# EAGLE library part NANOPI-DUO (library FriendlyArm)
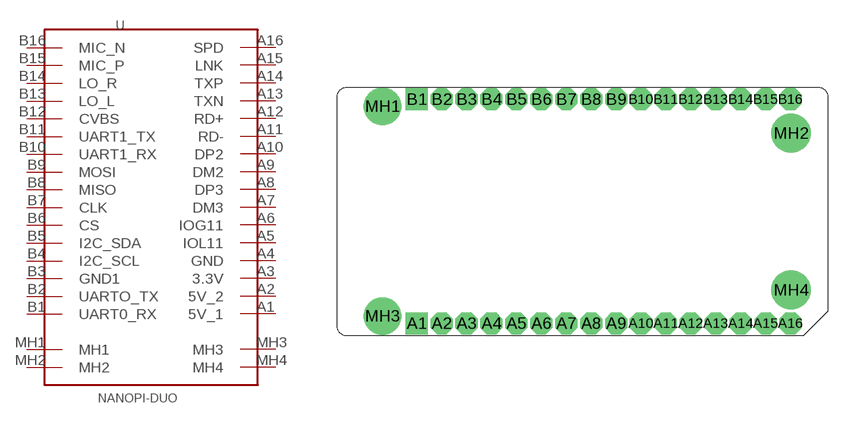
[diagram p3: symbol with the pads of NANOPI-DUO; footprint NANOPI-DUO]

Designator prefix -

## NANOPI-DUO  [NANOPI-DUO]
A1  5V_1
A2  5V_2
A3  3.3V
A4  GND
A5  IOL11
A6  IOG11
A7  DM3
A8  DP3
A9  DM2
A10  DP2
A11  RD-
A12  RD+
A13  TXN
A14  TXP
A15  LNK
A16  SPD
B1  UART0_RX
B2  UARTO_TX
B3  GND1
B4  I2C_SCL
B5  I2C_SDA
B6  CS
B7  CLK
B8  MISO
B9  MOSI
B10  UART1_RX
B11  UART1_TX
B12  CVBS
B13  LO_L
B14  LO_R
B15  MIC_P
B16  MIC_N
MH1  MH1
MH2  MH2
MH3  MH3
MH4  MH4

## Footprint NANOPI-DUO (pad centres in mm)
drill 1.5 square: A1 8.1,1.3; B1 8.1,24.16
drill 1.5 octagon: A2 10.64,1.3; A3 13.18,1.3; A4 15.72,1.3; A5 18.26,1.3; A6 20.8,1.3; A7 23.34,1.3; A8 25.88,1.3; A9 28.42,1.3; A10 30.96,1.3; A11 33.5,1.3; A12 36.04,1.3; A13 38.58,1.3; A14 41.12,1.3; A15 43.66,1.3; A16 46.2,1.3; B2 10.64,24.16; B3 13.18,24.16; B4 15.72,24.16; B5 18.26,24.16; B6 20.8,24.16; B7 23.34,24.16; B8 25.88,24.16; B9 28.42,24.16; B10 30.96,24.16; B11 33.5,24.16; B12 36.04,24.16; B13 38.58,24.16; B14 41.12,24.16; B15 43.66,24.16; B16 46.2,24.16
drill 2.2 pad 3.81: MH1 4.6,23.45; MH3 4.6,2.05
drill 2.2 pad 4: MH2 46.25,20.7; MH4 46.25,4.7